# Altium schematic symbol library power_brick_module_8.Schlib: 1 symbol
Pins are listed as number, name and electrical type; pins without a type are passive.

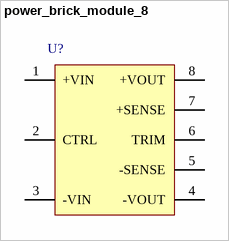
[diagram p0: symbol power_brick_module_8]

## power_brick_module_8
designator U?  (value not drawn)
Power Brick Module, 8-pin
pins: 1 +VIN, 2 CTRL, 3 -VIN, 4 -VOUT, 5 -SENSE, 6 TRIM, 7 +SENSE, 8 +VOUT